# Altium schematic symbol library LED_Roulette_Wheel.SchLib: 2 symbols
Pins are listed as number, name and electrical type; pins without a type are passive.

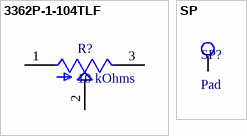
[diagram p0: symbols 3362P-1-104TLF to SP]

## 3362P-1-104TLF
designator R?, comment 10 kOhms
10 kOhms 0.5W, 1/2W PC Pins Through Hole Trimmer Potentiometer Cermet 1 Turn Top Finger Adjustment; MP: 3362P-1-104TLF; MF: Bourns; Purchase-URL: https://pricing.snapeda.com/search/part/3362P-1-104TLF/?ref=eda; Package: 3362P-1-T Bourns Inc.; SnapEDA_Link: https://www.snapeda.com/parts/3362P-1-104TLF/Bourns/view-part/1448275/?ref=snap; Availability: Warning; Price: None; Value: *; Check_prices: https://www.snapeda.com/parts/3362P-1-104TLF/Bourns/view-part/1448275/?ref=eda
footprint TRIM_3362P-1-104TLF
pins: 1 CCW, 2 WIPER, 3 CW

## SP
designator SP?, comment Pad
footprint SP
pins: 1